# Altium footprint library EVENTCTRL.PcbLib: 42 footprints (part 1 of 3)
Each footprint in its own frame and in the unit in brackets; x right, y up, seen from the top. Pads: shape width x height; smd on the part's side, far side on the other; paste and mask are expansions set on the pad; w line width, h text height; cw(c..) or ccw(c..) is an arc to the next point about the centre after c.
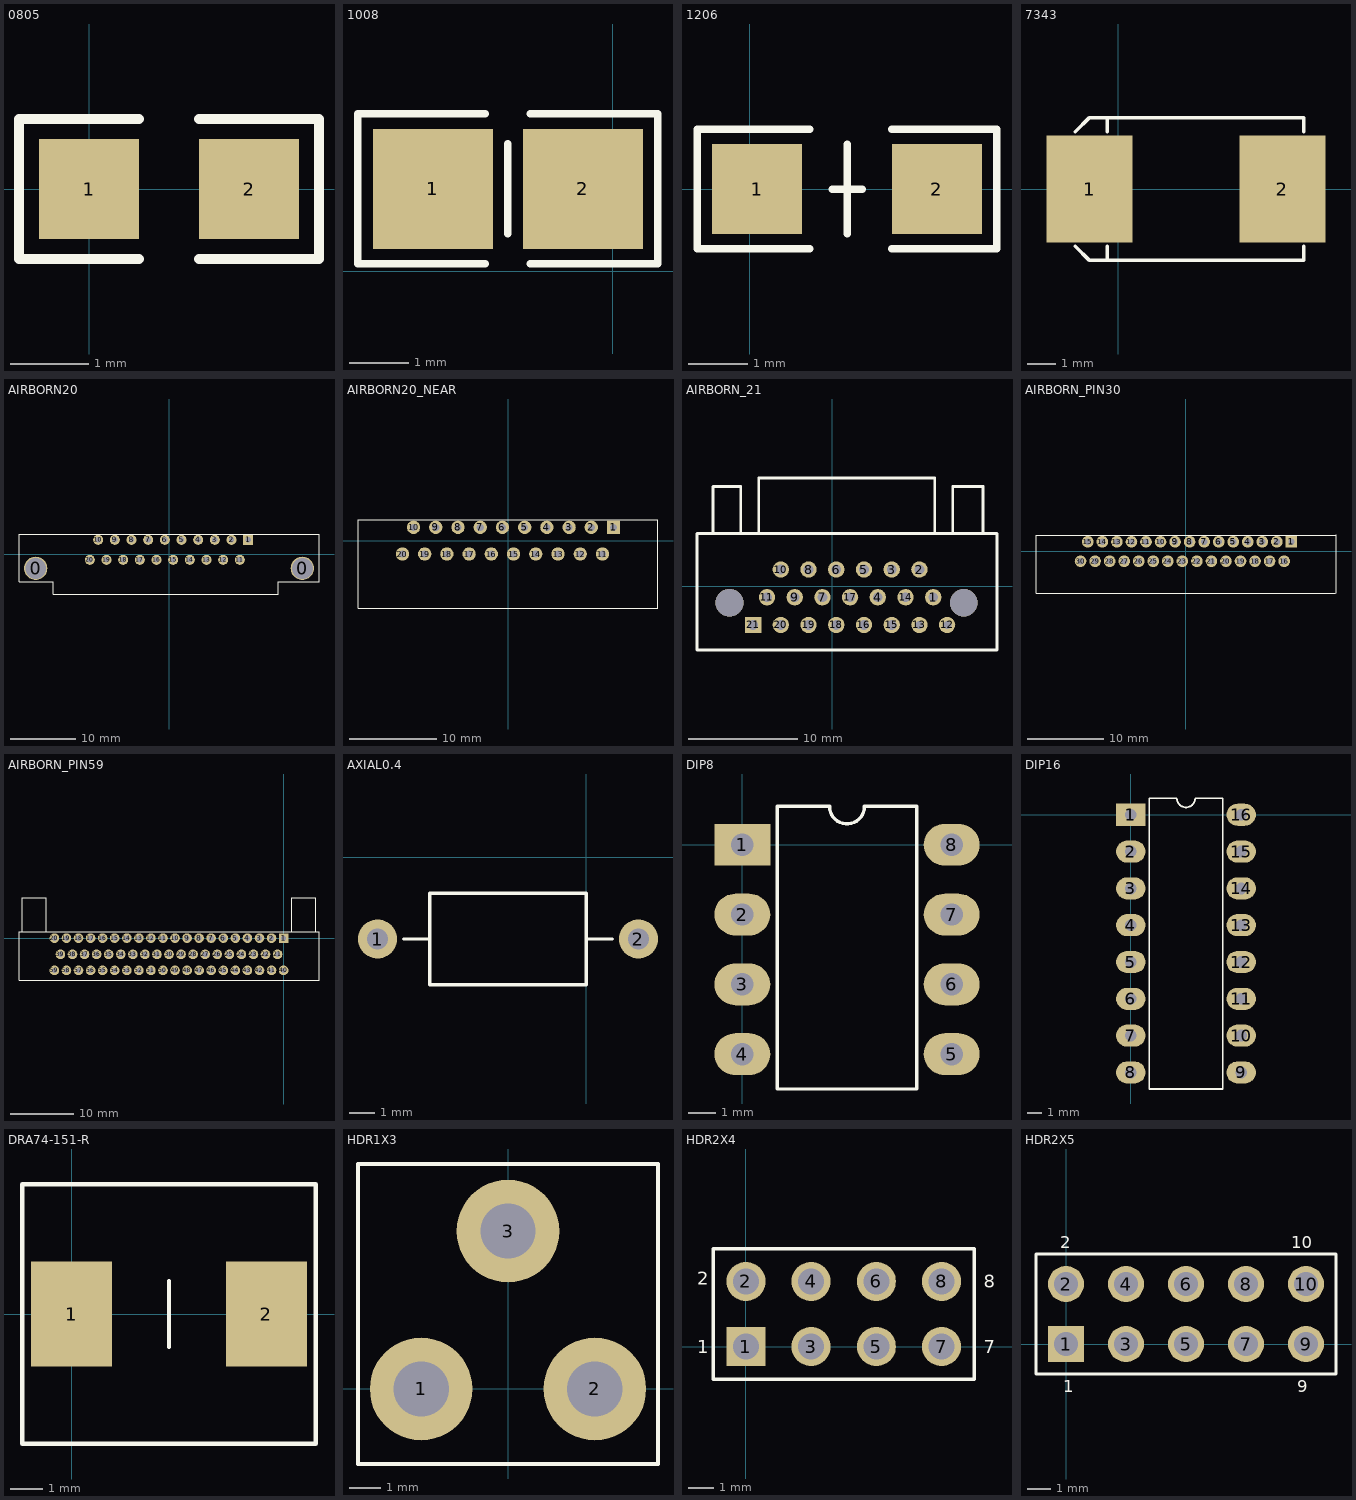
[diagram p0: the footprints below, top view; thin cyan lines are the x and y axes]

## 0805 [mil]
pads (2):
  rect 50x50 smd: 1(0,0) 2(80,0)
Top Overlay:
  lines w5: 25,-35 -35,-35 -35,35 25,35 ; 55,-35 115,-35 115,35 55,35

## 1008 [mil]
pads (2):
  rect 80x80 smd: 1(-120,55) 2(-20,55)
Top Overlay:
  lines w5: -85,5 -170,5 -170,105 -85,105 ; -70,25 -70,85 ; -55,5 30,5 30,105 -55,105

## 1206 [mil]
pads (2):
  rect 60x60 smd: 1(5,0) 2(125,0)
Top Overlay:
  lines w5: 40,-40 -35,-40 -35,40 40,40 ; 55,0 75,0 ; 65,-30 65,30 ; 95,-40 165,-40 165,40 95,40

## 7343 [mil]
pads (2):
  rect 120x150 smd: 1(-40,0) 2(230,0)
Top Overlay:
  lines w5: -60,-80 -40,-100 260,-100 260,-80 ; -60,80 -40,100 260,100 260,80 ; -15,-100 -15,-80 ; -15,80 -15,100

## AIRBORN20 [mil]
pads (22):
  round 140 hole 125 mask+4: 0(-800,-85.5) 0(800,-85.5)
  rect 60x60 hole 32 mask+4: 1(475,85.5)
  round 60 hole 32 mask+4: 2(375,85.5) 3(275,85.5) 4(175,85.5) 5(75,85.5) 6(-25,85.5) 7(-125,85.5) 8(-225,85.5) 9(-325,85.5) 10(-425,85.5) 11(425,-34.5) 12(325,-34.5) 13(225,-34.5) 14(125,-34.5) 15(25,-34.5) 16(-75,-34.5) 17(-175,-34.5) 18(-275,-34.5) 19(-375,-34.5) 20(-475,-34.5)
Top Overlay:
  lines w5: -900,-165.5 -695,-165.5 -695,-239.5 655,-239.5 655,-165.5 900,-165.5 900,120.5 -900,120.5 -900,-164.5

## AIRBORN20_NEAR [mil]
pads (20):
  rect 60x60 hole 32 mask+4: 1(475,60)
  round 60 hole 32 mask+4: 2(375,60) 3(275,60) 4(175,60) 5(75,60) 6(-25,60) 7(-125,60) 8(-225,60) 9(-325,60) 10(-425,60) 11(425,-60) 12(325,-60) 13(225,-60) 14(125,-60) 15(25,-60) 16(-75,-60) 17(-175,-60) 18(-275,-60) 19(-375,-60) 20(-475,-60)
Top Overlay:
  lines w5: -675,-305 675,-305 675,95 -675,95 -675,-305

## AIRBORN_21 [mm]
pads (21):
  round 1.5 hole 0.9: 1(9.271,-1.016) 2(8.001,1.524) 3(5.461,1.524) 4(4.191,-1.016) 5(2.921,1.524) 6(0.381,1.524) 7(-0.889,-1.016) 8(-2.159,1.524) 9(-3.429,-1.016) 10(-4.699,1.524) 11(-5.969,-1.016) 14(6.731,-1.016) 15(5.461,-3.556) 16(2.921,-3.556) 17(1.651,-1.016) 18(0.381,-3.556) 19(-2.159,-3.556) 20(-4.699,-3.556)
  round 1.5 hole 0.762: 12(10.541,-3.556) 13(8.001,-3.556)
  rect 1.5x1.5 hole 0.9: 21(-7.239,-3.556)
via 12.066,-1.526 diameter 2.54 hole 2.54
via -9.398,-1.526 diameter 2.54 hole 2.54
Top Overlay:
  lines w0.254: -10.922,4.824 -10.922,9.144 -8.382,9.144 -8.382,4.824 ; -6.731,4.876 -6.731,9.906 ; -6.604,9.906 9.398,9.906 9.398,4.876 ; 8.382,4.824 10.922,4.824 ; 11.049,4.824 11.049,9.144 ; 11.176,9.144 13.716,9.144 ; 13.843,4.826 13.843,9.146 ; 15.113,-5.842 15.113,4.828 ; 15.114,-5.846 -12.383,-5.846 -12.383,4.824 15.114,4.824

## AIRBORN_PIN30 [mil]
pads (30):
  rect 60x60 hole 32: 1(543.75,50)
  round 60 hole 32: 2(468.75,50) 3(393.75,50) 4(318.75,50) 5(243.75,50) 6(168.75,50) 7(93.75,50) 8(18.75,50) 9(-56.25,50) 10(-131.25,50) 11(-206.25,50) 12(-281.25,50) 13(-356.25,50) 14(-431.25,50) 15(-506.25,50) 16(506.25,-50) 17(431.25,-50) 18(356.25,-50) 19(281.25,-50) 20(206.25,-50) 21(131.25,-50) 22(56.25,-50) 23(-18.75,-50) 24(-93.75,-50) 25(-168.75,-50) 26(-243.75,-50) 27(-318.75,-50) 28(-393.75,-50) 29(-468.75,-50) 30(-543.75,-50)
Top Overlay:
  lines w5: 768.75,-215 -773.5,-215 -773.5,85 773.75,85 ; 773.75,-215 773.75,86

## AIRBORN_PIN59 [mil]
pads (59):
  rect 60x60 hole 32: 1(0,0)
  round 60 hole 32: 2(-75,0) 3(-150,0) 4(-225,0) 5(-300,0) 6(-375,0) 7(-450,0) 8(-525,0) 9(-600,0) 10(-675,0) 11(-750,0) 12(-825,0) 13(-900,0) 14(-975,0) 15(-1050,0) 16(-1125,0) 17(-1200,0) 18(-1275,0) 19(-1350,0) 20(-1425,0) 21(-37.5,-100) 22(-112.5,-100) 23(-187.5,-100) 24(-262.5,-100) 25(-337.5,-100) 26(-412.5,-100) 27(-487.5,-100) 28(-562.5,-100) 29(-637.5,-100) 30(-712.5,-100) 31(-787.5,-100) 32(-862.5,-100) 33(-937.5,-100) 34(-1012.5,-100) 35(-1087.5,-100) 36(-1162.5,-100) 37(-1237.5,-100) 38(-1312.5,-100) 39(-1387.5,-100) 40(0,-200) 41(-75,-200) 42(-150,-200) 43(-225,-200) 44(-300,-200) 45(-375,-200) 46(-450,-200) 47(-525,-200) 48(-600,-200) 49(-675,-200) 50(-750,-200) 51(-825,-200) 52(-900,-200) 53(-975,-200) 54(-1050,-200) 55(-1125,-200) 56(-1200,-200) 57(-1275,-200) 58(-1350,-200) 59(-1425,-200)
Top Overlay:
  lines w5: -1625,40 -1625,250 -1475,250 -1475,40 ; 50,40 50,250 200,250 200,40 ; -1645,-260 -1645,40 220,40 220,-260 -1645,-260

## AXIAL0.4 [mil]
pads (2):
  round 60 hole 32: 1(-320,-125) 2(80,-125)
Top Overlay:
  lines w5: -280,-125 -240,-125 ; 0,-125 40,-125 ; -240,-195 -240,-55 0,-55 0,-195 -240,-195

## DIP8 [mil]
pads (8):
  rect 80x60 hole 32: 1(0,0)
  oval 80x60 hole 32: 2(0,-100) 3(0,-200) 4(0,-300) 5(300,-300) 6(300,-200) 7(300,-100) 8(300,0)
Top Overlay:
  lines w5: 50,-350 50,55 125,55 ccw(c150,55) 175,55 250,55 250,-350 50,-350

## DIP16 [mil]
pads (16):
  rect 80x60 hole 32: 1(0,0)
  oval 80x60 hole 32: 2(0,-100) 3(0,-200) 4(0,-300) 5(0,-400) 6(0,-500) 7(0,-600) 8(0,-700) 9(300,-700) 10(300,-600) 11(300,-500) 12(300,-400) 13(300,-300) 14(300,-200) 15(300,-100) 16(300,0)
Top Overlay:
  lines w5: 50,-745 250,-745 250,45 175,45 cw(c150,45) 125,45 50,45 50,-745

## DRA74-151-R [mm]
pads (2):
  rect 2.5x3.25 smd: 1(0,0) 2(6,0)
Top Overlay:
  lines w0.127: 3,-1.016 3,1.016 ; -1.524,-4 7.524,-4 7.524,4 -1.524,4 -1.524,-4

## HDR1X3 [mil]
pads (3):
  round 130 hole 70: 1(-110,0) 2(110,0) 3(0,200)
Top Overlay:
  lines w5: -190,-95 190,-95 190,285 -190,285 -190,-95

## HDR2X4 [mil]
pads (8):
  rect 60x60 hole 40: 1(0,0)
  round 60 hole 40: 2(0,100) 3(100,0) 4(100,100) 5(200,0) 6(200,100) 7(300,0) 8(300,100)
Top Overlay:
  lines w5: -50,-50 -50,150 350,150 350,-50 -50,-50
  text "2" at -75,95 h20
  text "8" at 365,90 h20
  text "1" at -75,-10 h20
  text "7" at 365,-10 h20

## HDR2X5 [mil]
pads (10):
  rect 60x60 hole 40: 1(0,0)
  round 60 hole 40: 2(0,100) 3(100,0) 4(100,100) 5(200,0) 6(200,100) 7(300,0) 8(300,100) 9(400,0) 10(400,100)
Top Overlay:
  lines w5: -50,-50 -50,150 450,150 450,-50 -50,-50
  text "2" at -10,160 h20
  text "1" at -5,-80 h20
  text "9" at 385,-80 h20
  text "10" at 375,160 h20